# Altium schematic symbol library HV_Connectors.SchLib: 3 symbols
Pins are listed as number, name and electrical type; pins without a type are passive.

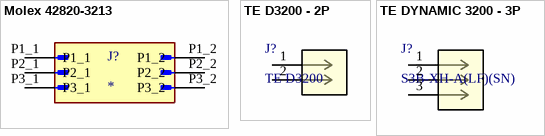
[diagram p0: symbols Molex 42820-3213 to TE DYNAMIC 3200 - 3P]

## Molex 42820-3213
designator J?
MP: 428203213; Price: None; Package: None; Availability: Unavailable; Value: *
footprint MOLEX_428203213
pins: P1_1, P1_2, P2_1, P2_2, P3_1, P3_2

## TE D3200 - 2P
designator J?, comment TE D3200
No Description Available; Mfr_Name: JST; Manufacturer_Part_Number: S2B-XH-A-1(LF)(SN); Copyright: Copyright (C) 2024 Ultra Librarian. All rights reserved.; RefDes: RefDes; Type: DEV
footprint TE DYNAMIC 3200
pins: 1, 2

## TE DYNAMIC 3200 - 3P
designator J?, comment S3B-XH-A(LF)(SN)
No Description Available; Mfr_Name: JST; Copyright: Copyright (C) 2024 Ultra Librarian. All rights reserved.; Manufacturer_Part_Number: S3B-XH-A(LF)(SN); RefDes: RefDes; Type: DEV
footprint TE DYNAMIC 3200 - 3P
pins: 1, 2, 3